# Altium schematic symbol library APSS Connectors.SchLib: 89 symbols
Pins are listed as number, name and electrical type; pins without a type are passive.

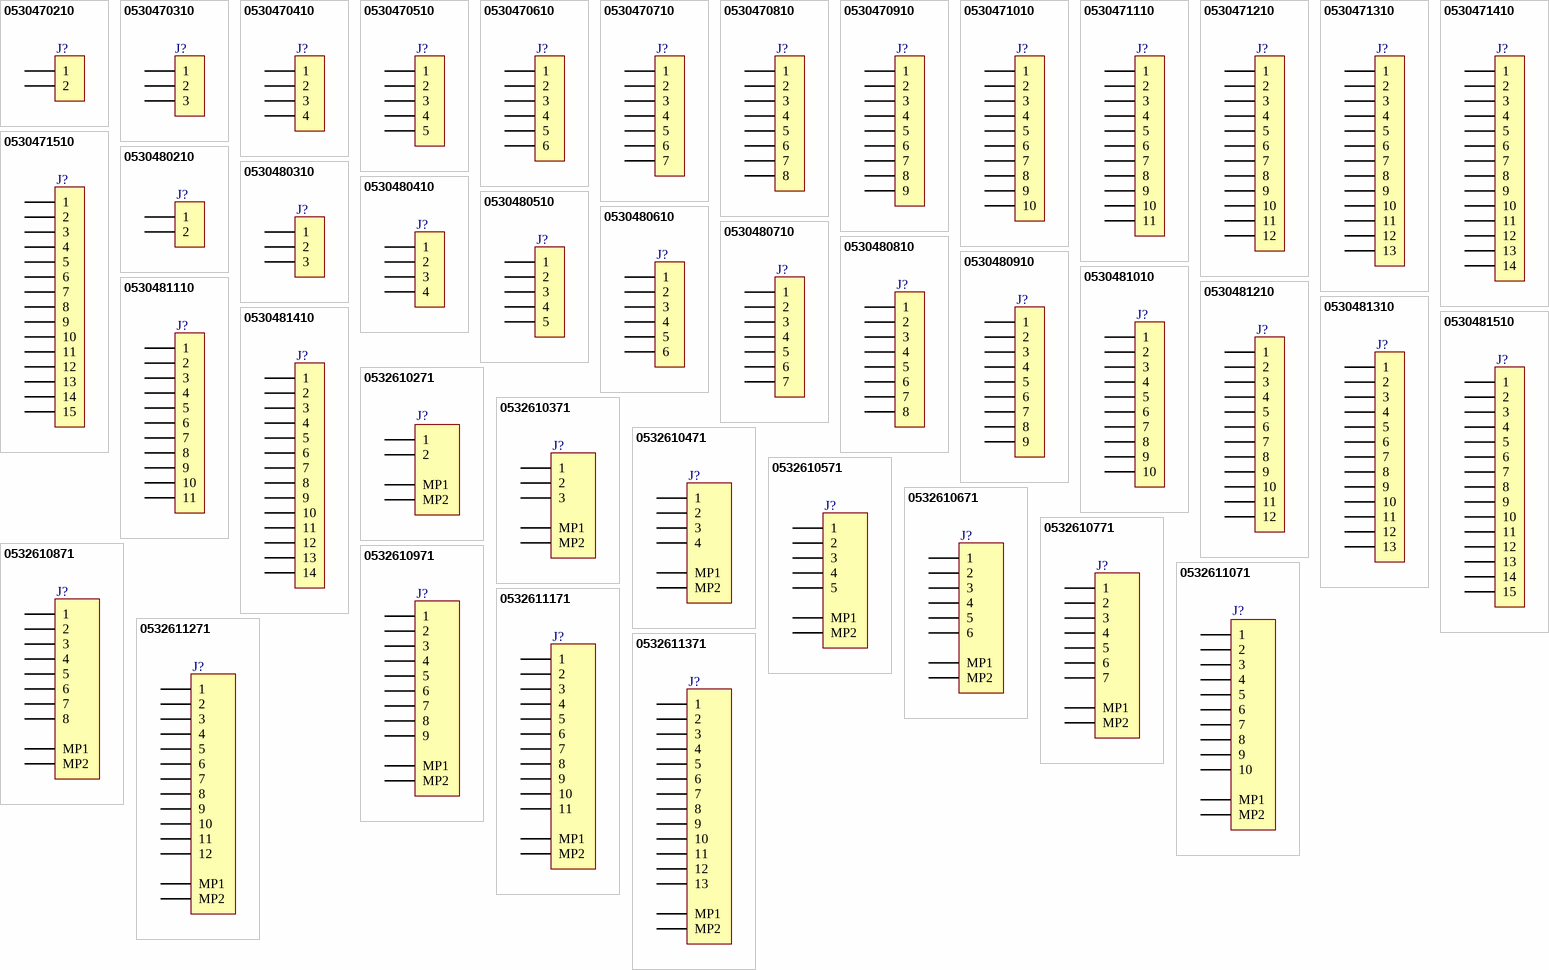
[diagram p0: symbols 0530470210 to 0532611371]

## 0530470210
designator J?  (value not drawn)
Connector - Picoblade 02-pin, TH, STR; APSS Standard Part: APSS Standard; Pitch: 1.25mm; Mounting Type: Through-hole; Orientation: Straight; MF Part No.: 0530470210; Pins: 2; Supplier 1: Digikey; Supplier 1 Part No.: WM1731-ND
footprint MOLEX_0530470210
pins: 1, 2

## 0530470310
designator J?  (value not drawn)
Connector - Picoblade 03-pin, TH, STR; APSS Standard Part: APSS Standard; Pitch: 1.25mm; Mounting Type: Through-hole; Orientation: Straight; MF Part No.: 0530470310; Pins: 3; Supplier 1: Digikey; Supplier 1 Part No.: WM1732-ND
footprint MOLEX_0530470310 (Header - Picoblade 03-pin, TH, STR, 4.2mm height)
pins: 1, 2, 3

## 0530470410
designator J?  (value not drawn)
Connector - Picoblade 04-pin, TH, STR; APSS Standard Part: APSS Standard; Pitch: 1.25mm; Mounting Type: Through-hole; Orientation: Straight; MF Part No.: 0530470410; Pins: 4; Supplier 1: Digikey; Supplier 1 Part No.: WM1733-ND
footprint MOLEX_0530470410
pins: 1, 2, 3, 4

## 0530470510
designator J?  (value not drawn)
Connector - Picoblade 05-pin, TH, STR; APSS Standard Part: APSS Standard; Pitch: 1.25mm; Mounting Type: Through-hole; Orientation: Straight; MF Part No.: 0530470510; Pins: 5; Supplier 1: Digikey; Supplier 1 Part No.: WM1734-ND
footprint MOLEX_0530470510 (Header - Picoblade 05-pin, TH, STR, 4.2mm height)
pins: 1, 2, 3, 4, 5

## 0530470610
designator J?  (value not drawn)
Connector - Picoblade 06-pin, TH, STR; APSS Standard Part: APSS Standard; Pitch: 1.25mm; Mounting Type: Through-hole; Orientation: Straight; MF Part No.: 0530470610; Pins: 6; Supplier 1: Digikey; Supplier 1 Part No.: WM1735-ND
footprint MOLEX_0530470610
pins: 1, 2, 3, 4, 5, 6

## 0530470710
designator J?  (value not drawn)
Connector - Picoblade 07-pin, TH, STR; APSS Standard Part: APSS Standard; Pitch: 1.25mm; Mounting Type: Through-hole; Orientation: Straight; MF Part No.: 0530470710; Pins: 7; Supplier 1: Digikey; Supplier 1 Part No.: WM1736-ND
footprint MOLEX_0530470710 (Header - Picoblade 07-pin, TH, STR, 4.2mm height)
pins: 1, 2, 3, 4, 5, 6, 7

## 0530470810
designator J?  (value not drawn)
Connector - Picoblade 08-pin, TH, STR; APSS Standard Part: APSS Standard; Pitch: 1.25mm; Mounting Type: Through-hole; Orientation: Straight; MF Part No.: 0530470810; Pins: 8; Supplier 1: Digikey; Supplier 1 Part No.: WM1737-ND
footprint MOLEX_0530470810
pins: 1, 2, 3, 4, 5, 6, 7, 8

## 0530470910
designator J?  (value not drawn)
Connector - Picoblade 09-pin, TH, STR; APSS Standard Part: APSS Standard; Pitch: 1.25mm; Mounting Type: Through-hole; Orientation: Straight; MF Part No.: 0530470910; Pins: 9; Supplier 1: Digikey; Supplier 1 Part No.: WM1738-ND
footprint MOLEX_0530470910 (Header - Picoblade 09-pin, TH, STR, 4.2mm height)
pins: 1, 2, 3, 4, 5, 6, 7, 8, 9

## 0530471010
designator J?  (value not drawn)
Connector - Picoblade 10-pin, TH, STR; APSS Standard Part: APSS Standard; Pitch: 1.25mm; Mounting Type: Through-hole; Orientation: Straight; MF Part No.: 0530471010; Pins: 10; Supplier 1: Digikey; Supplier 1 Part No.: WM1739-ND
footprint MOLEX_0530471010
pins: 1, 2, 3, 4, 5, 6, 7, 8, 9, 10

## 0530471110
designator J?  (value not drawn)
Connector - Picoblade 11-pin, TH, STR; APSS Standard Part: APSS Standard; Pitch: 1.25mm; Mounting Type: Through-hole; Orientation: Straight; MF Part No.: 0530471110; Pins: 11; Supplier 1: Digikey; Supplier 1 Part No.: WM1740-ND
footprint MOLEX_0530471110 (Header - Picoblade 11-pin, TH, STR, 4.2mm height)
pins: 1, 2, 3, 4, 5, 6, 7, 8, 9, 10, 11

## 0530471210
designator J?  (value not drawn)
Connector - Picoblade 12-pin, TH, STR; APSS Standard Part: APSS Standard; Pitch: 1.25mm; Mounting Type: Through-hole; Orientation: Straight; MF Part No.: 0530471210; Pins: 12; Supplier 1: Digikey; Supplier 1 Part No.: WM1741-ND
footprint MOLEX_0530471210
pins: 1, 2, 3, 4, 5, 6, 7, 8, 9, 10, 11, 12

## 0530471310
designator J?  (value not drawn)
Connector - Picoblade 13-pin, TH, STR; APSS Standard Part: APSS Standard; Pitch: 1.25mm; Mounting Type: Through-hole; Orientation: Straight; MF Part No.: 0530471310; Pins: 13; Supplier 1: Digikey; Supplier 1 Part No.: 23-0530471310-ND
footprint MOLEX_0530471310 (Header - Picoblade 13-pin, TH, STR, 4.2mm height)
pins: 1, 2, 3, 4, 5, 6, 7, 8, 9, 10, 11, 12, 13

## 0530471410
designator J?  (value not drawn)
Connector - Picoblade 14-pin, TH, STR; APSS Standard Part: APSS Standard; Pitch: 1.25mm; Mounting Type: Through-hole; Orientation: Straight; MF Part No.: 0530471410; Pins: 14; Supplier 1: Digikey; Supplier 1 Part No.: WM17004-ND
footprint MOLEX_0530471410
pins: 1, 2, 3, 4, 5, 6, 7, 8, 9, 10, 11, 12, 13, 14

## 0530471510
designator J?  (value not drawn)
Connector - Picoblade 15-pin, TH, STR; APSS Standard Part: APSS Standard; Pitch: 1.25mm; Mounting Type: Through-hole; Orientation: Straight; Supplier 1: Digikey; Supplier 1 Part No.: WM17005-ND; MF Part No.: 0530471510; Pins: 15
footprint MOLEX_0530471510 (Header - Picoblade 15-pin, TH, STR, 4.2mm height)
pins: 1, 2, 3, 4, 5, 6, 7, 8, 9, 10, 11, 12, 13, 14, 15

## 0530480210
designator J?  (value not drawn)
Connector - Picoblade 02-pin, TH, RA; APSS Standard Part: APSS Standard; Pitch: 1.25mm; Mounting Type: Through-hole; Orientation: Right Angle; MF Part No.: 0530480210; Pins: 2; Supplier 1: Digikey; Supplier 1 Part No.: WM1742-ND
footprint MOLEX_0530480210
pins: 1, 2

## 0530480310
designator J?  (value not drawn)
Connector - Picoblade 03-pin, TH, RA; APSS Standard Part: APSS Standard; Pitch: 1.25mm; Mounting Type: Through-hole; Orientation: Right Angle; MF Part No.: 0530480310; Pins: 3; Supplier 1: Digikey; Supplier 1 Part No.: WM1743-ND
footprint MOLEX_0530480310 (Header - Picoblade 03-pin, TH, RA, 4.2mm height)
pins: 1, 2, 3

## 0530480410
designator J?  (value not drawn)
Connector - Picoblade 04-pin, TH, RA; APSS Standard Part: APSS Standard; Pitch: 1.25mm; Mounting Type: Through-hole; Orientation: Right Angle; MF Part No.: 0530480410; Pins: 4; Supplier 1: Digikey; Supplier 1 Part No.: WM1744-ND
footprint MOLEX_0530480410
pins: 1, 2, 3, 4

## 0530480510
designator J?  (value not drawn)
Connector - Picoblade 05-pin, TH, RA; APSS Standard Part: APSS Standard; Pitch: 1.25mm; Mounting Type: Through-hole; Orientation: Right Angle; MF Part No.: 0530480510; Pins: 5; Supplier 1: Digikey; Supplier 1 Part No.: WM1745-ND
footprint MOLEX_0530480510 (Header - Picoblade 05-pin, TH, RA, 4.2mm height)
pins: 1, 2, 3, 4, 5

## 0530480610
designator J?  (value not drawn)
Connector - Picoblade 06-pin, TH, RA; APSS Standard Part: APSS Standard; Pitch: 1.25mm; Mounting Type: Through-hole; Orientation: Right Angle; MF Part No.: 0530480610; Pins: 6; Supplier 1: Digikey; Supplier 1 Part No.: WM1746-ND
footprint MOLEX_0530480610
pins: 1, 2, 3, 4, 5, 6

## 0530480710
designator J?  (value not drawn)
Connector - Picoblade 07-pin, TH, RA; APSS Standard Part: APSS Standard; Pitch: 1.25mm; Mounting Type: Through-hole; Orientation: Right Angle; MF Part No.: 0530480710; Pins: 7; Supplier 1: Digikey; Supplier 1 Part No.: WM1747-ND
footprint MOLEX_0530480710 (Header - Picoblade 07-pin, TH, RA, 4.2mm height)
pins: 1, 2, 3, 4, 5, 6, 7

## 0530480810
designator J?  (value not drawn)
Connector - Picoblade 08-pin, TH, RA; APSS Standard Part: APSS Standard; Pitch: 1.25mm; Mounting Type: Through-hole; Orientation: Right Angle; MF Part No.: 0530480810; Pins: 8; Supplier 1: Digikey; Supplier 1 Part No.: WM1748-ND
footprint MOLEX_0530480810
pins: 1, 2, 3, 4, 5, 6, 7, 8

## 0530480910
designator J?  (value not drawn)
Connector - Picoblade 09-pin, TH, RA; APSS Standard Part: APSS Standard; Pitch: 1.25mm; Mounting Type: Through-hole; Orientation: Right Angle; MF Part No.: 0530480910; Pins: 9; Supplier 1: Digikey; Supplier 1 Part No.: WM1749-ND
footprint MOLEX_0530480910 (Header - Picoblade 09-pin, TH, RA, 4.2mm height)
pins: 1, 2, 3, 4, 5, 6, 7, 8, 9

## 0530481010
designator J?  (value not drawn)
Connector - Picoblade 10-pin, TH, RA; APSS Standard Part: APSS Standard; Pitch: 1.25mm; Mounting Type: Through-hole; Orientation: Right Angle; MF Part No.: 0530481010; Pins: 10; Supplier 1: Digikey; Supplier 1 Part No.: WM1750-ND
footprint MOLEX_0530481010
pins: 1, 2, 3, 4, 5, 6, 7, 8, 9, 10

## 0530481110
designator J?  (value not drawn)
Connector - Picoblade 11-pin, TH, RA; APSS Standard Part: APSS Standard; Pitch: 1.25mm; Mounting Type: Through-hole; Orientation: Right Angle; MF Part No.: 0530481110; Pins: 11; Supplier 1: Digikey; Supplier 1 Part No.: WM1751-ND
footprint MOLEX_0530481110 (Header - Picoblade 11-pin, TH, RA, 4.2mm height)
pins: 1, 2, 3, 4, 5, 6, 7, 8, 9, 10, 11

## 0530481210
designator J?  (value not drawn)
Connector - Picoblade 12-pin, TH, RA; APSS Standard Part: APSS Standard; Pitch: 1.25mm; Mounting Type: Through-hole; Orientation: Right Angle; MF Part No.: 0530481210; Pins: 12; Supplier 1: Digikey; Supplier 1 Part No.: WM1752-ND
footprint MOLEX_0530481210
pins: 1, 2, 3, 4, 5, 6, 7, 8, 9, 10, 11, 12

## 0530481310
designator J?  (value not drawn)
Connector - Picoblade 13-pin, TH, RA; APSS Standard Part: APSS Standard; Pitch: 1.25mm; Mounting Type: Through-hole; Orientation: Right Angle; MF Part No.: 0530481310; Pins: 13; Supplier 1: Digikey; Supplier 1 Part No.: 23-0530481310-ND
footprint MOLEX_0530481310 (Header - Picoblade 13-pin, TH, RA, 4.2mm height)
pins: 1, 2, 3, 4, 5, 6, 7, 8, 9, 10, 11, 12, 13

## 0530481410
designator J?  (value not drawn)
Connector - Picoblade 14-pin, TH, RA; APSS Standard Part: APSS Standard; Pitch: 1.25mm; Mounting Type: Through-hole; Orientation: Right Angle; MF Part No.: 0530481410; Pins: 14; Supplier 1: Digikey; Supplier 1 Part No.: WM17007-ND
footprint MOLEX_0530481410
pins: 1, 2, 3, 4, 5, 6, 7, 8, 9, 10, 11, 12, 13, 14

## 0530481510
designator J?  (value not drawn)
Connector - Picoblade 15-pin, TH, RA; APSS Standard Part: APSS Standard; Pitch: 1.25mm; Mounting Type: Through-hole; Orientation: Right Angle; MF Part No.: 0530481510; Pins: 15; Supplier 1: Digikey; Supplier 1 Part No.: WM17008-ND
footprint MOLEX_0530481510 (Header - Picoblade 15-pin, TH, RA, 4.2mm height)
pins: 1, 2, 3, 4, 5, 6, 7, 8, 9, 10, 11, 12, 13, 14, 15

## 0532610271
designator J?  (value not drawn)
Connector - Picoblade 02-pin, SMT, RA; APSS Standard Part: APSS Standard; Pitch: 1.25mm; Mounting Type: Surface Mount; Orientation: Right Angle; MF Part No.: 0532610271; Pins: 2; Supplier 1: Digikey; Supplier 1 Part No.: WM7620CT-ND
footprint MOLEX_0532610271 (Header - Picoblade 02-pin, SMT, RA, 3.4mm height)
pins: 1, 2, MP1, MP2

## 0532610371
designator J?  (value not drawn)
Connector - Picoblade 03-pin, SMT, RA; APSS Standard Part: APSS Standard; Pitch: 1.25mm; Mounting Type: Surface Mount; Orientation: Right Angle; MF Part No.: 0532610371; Pins: 3; Supplier 1: Digikey; Supplier 1 Part No.: WM7621CT-ND
footprint MOLEX_0532610371 (Header - Picoblade 03-pin, SMT, RA, 3.4mm height)
pins: 1, 2, 3, MP1, MP2

## 0532610471
designator J?  (value not drawn)
Connector - Picoblade 04-pin, SMT, RA; APSS Standard Part: APSS Standard; Pitch: 1.25mm; Mounting Type: Surface Mount; Orientation: Right Angle; MF Part No.: 0532610471; Pins: 4; Supplier 1: Digikey; Supplier 1 Part No.: WM7622CT-ND
footprint MOLEX_0532610471 (Header - Picoblade 04-pin, SMT, RA, 3.4mm height)
pins: 1, 2, 3, 4, MP1, MP2

## 0532610571
designator J?  (value not drawn)
Connector - Picoblade 05-pin, SMT, RA; APSS Standard Part: APSS Standard; Pitch: 1.25mm; Mounting Type: Surface Mount; Orientation: Right Angle; MF Part No.: 0532610571; Pins: 5; Supplier 1: Digikey; Supplier 1 Part No.: WM7623CT-ND
footprint MOLEX_0532610571 (Header - Picoblade 05-pin, SMT, RA, 3.4mm height)
pins: 1, 2, 3, 4, 5, MP1, MP2

## 0532610671
designator J?  (value not drawn)
Connector - Picoblade 06-pin, SMT, RA; APSS Standard Part: APSS Standard; Pitch: 1.25mm; Mounting Type: Surface Mount; Orientation: Right Angle; MF Part No.: 0532610671; Pins: 6; Supplier 1: Digikey; Supplier 1 Part No.: WM7624CT-ND
footprint MOLEX_0532610671 (Header - Picoblade 06-pin, SMT, RA, 3.4mm height)
pins: 1, 2, 3, 4, 5, 6, MP1, MP2

## 0532610771
designator J?  (value not drawn)
Connector - Picoblade 07-pin, SMT, RA; APSS Standard Part: APSS Standard; Pitch: 1.25mm; Mounting Type: Surface Mount; Orientation: Right Angle; MF Part No.: 0532610771; Pins: 7; Supplier 1: Digikey; Supplier 1 Part No.: WM7625CT-ND
footprint MOLEX_0532610771 (Header - Picoblade 07-pin, SMT, RA, 3.4mm height)
pins: 1, 2, 3, 4, 5, 6, 7, MP1, MP2

## 0532610871
designator J?  (value not drawn)
Connector - Picoblade 08-pin, SMT, RA; APSS Standard Part: APSS Standard; Pitch: 1.25mm; Mounting Type: Surface Mount; Orientation: Right Angle; MF Part No.: 0532610871; Pins: 8; Supplier 1: Digikey; Supplier 1 Part No.: WM7626CT-ND
footprint MOLEX_0532610871 (Header - Picoblade 08-pin, SMT, RA, 3.4mm height)
pins: 1, 2, 3, 4, 5, 6, 7, 8, MP1, MP2

## 0532610971
designator J?  (value not drawn)
Connector - Picoblade 09-pin, SMT, RA; APSS Standard Part: APSS Standard; Pitch: 1.25mm; Mounting Type: Surface Mount; Orientation: Right Angle; MF Part No.: 0532610971; Pins: 9; Supplier 1: Digikey; Supplier 1 Part No.: WM7627CT-ND
footprint MOLEX_0532610971 (Header - Picoblade 09-pin, SMT, RA, 3.4mm height)
pins: 1, 2, 3, 4, 5, 6, 7, 8, 9, MP1, MP2

## 0532611071
designator J?  (value not drawn)
Connector - Picoblade 10-pin, SMT, RA; APSS Standard Part: APSS Standard; Pitch: 1.25mm; Mounting Type: Surface Mount; Orientation: Right Angle; MF Part No.: 0532611071; Pins: 10; Supplier 1: Digikey; Supplier 1 Part No.: WM7628CT-ND
footprint MOLEX_0532611071 (Header - Picoblade 10-pin, SMT, RA, 3.4mm height)
pins: 1, 2, 3, 4, 5, 6, 7, 8, 9, 10, MP1, MP2

## 0532611171
designator J?  (value not drawn)
Connector - Picoblade 11-pin, SMT, RA; APSS Standard Part: APSS Standard; Pitch: 1.25mm; Mounting Type: Surface Mount; Orientation: Right Angle; MF Part No.: 0532611171; Pins: 11; Supplier 1: Digikey; Supplier 1 Part No.: WM7629CT-ND
footprint MOLEX_0532611171 (Header - Picoblade 11-pin, SMT, RA, 3.4mm height)
pins: 1, 2, 3, 4, 5, 6, 7, 8, 9, 10, 11, MP1, MP2

## 0532611271
designator J?  (value not drawn)
Connector - Picoblade 12-pin, SMT, RA; APSS Standard Part: APSS Standard; Pitch: 1.25mm; Mounting Type: Surface Mount; Orientation: Right Angle; MF Part No.: 0532611271; Pins: 12; Supplier 1: Digikey; Supplier 1 Part No.: WM7630CT-ND
footprint MOLEX_0532611271 (Header - Picoblade 12-pin, SMT, RA, 3.4mm height)
pins: 1, 2, 3, 4, 5, 6, 7, 8, 9, 10, 11, 12, MP1, MP2

## 0532611371
designator J?  (value not drawn)
Connector - Picoblade 13-pin, SMT, RA; APSS Standard Part: APSS Standard; Pitch: 1.25mm; Mounting Type: Surface Mount; Orientation: Right Angle; MF Part No.: 0532611371; Pins: 13; Supplier 1: Digikey; Supplier 1 Part No.: WM14352CT-ND
footprint MOLEX_0532611371 (Header - Picoblade 13-pin, SMT, RA, 3.4mm height)
pins: 1, 2, 3, 4, 5, 6, 7, 8, 9, 10, 11, 12, 13, MP1, MP2

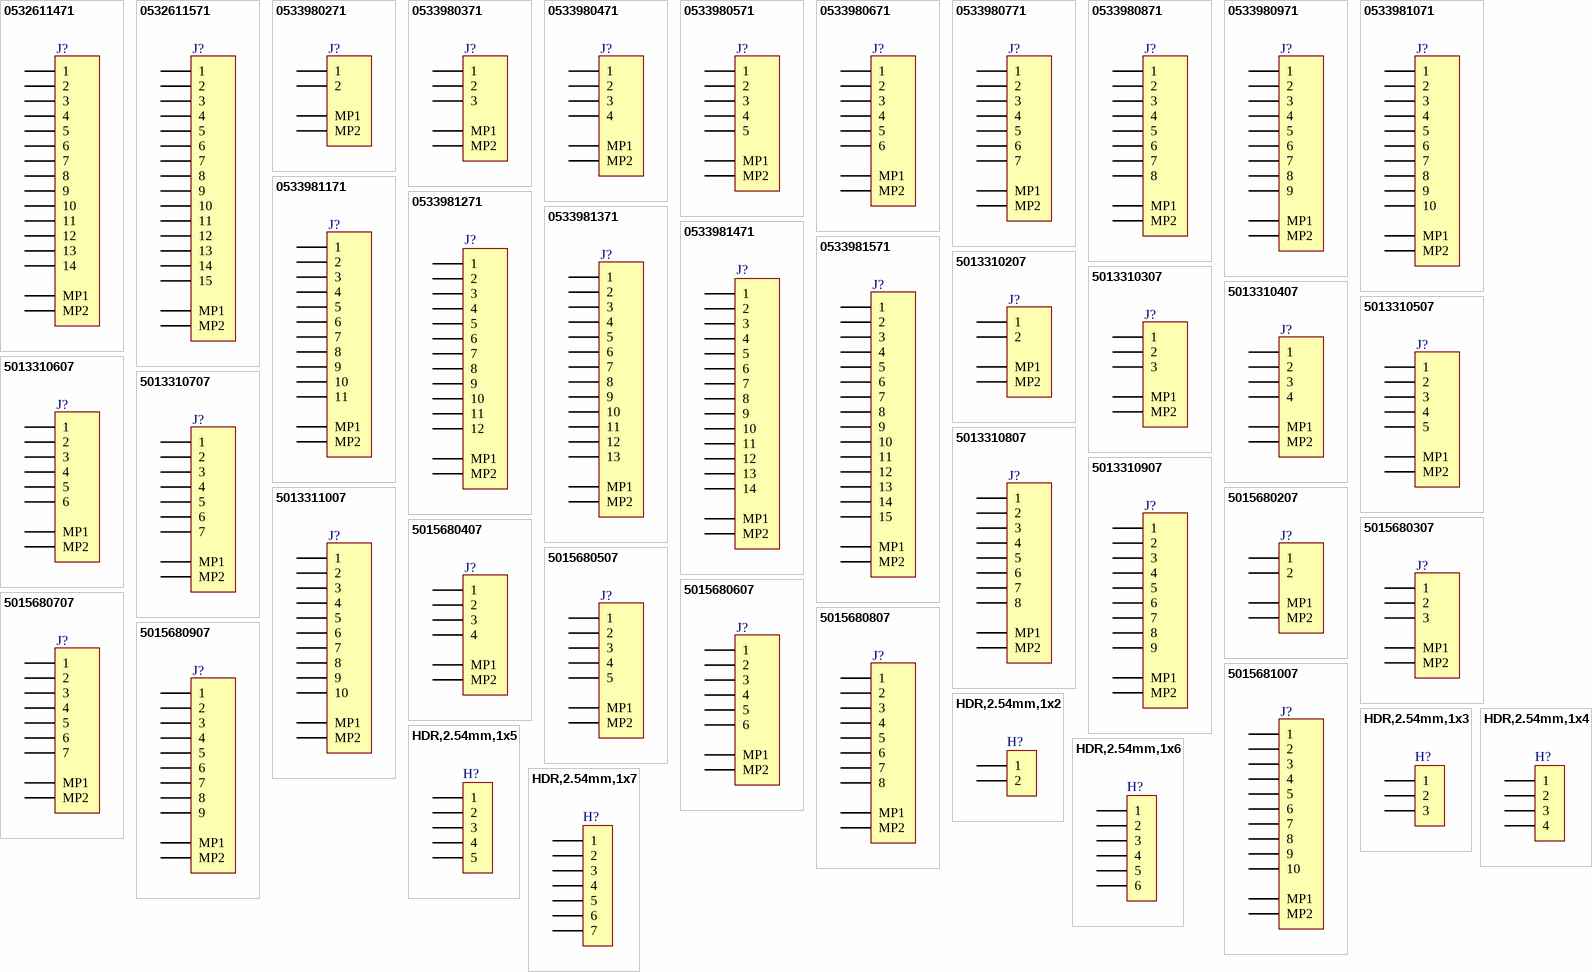
[diagram p1: symbols 0532611471 to HDR,2.54mm,1x7]

## 0532611471
designator J?  (value not drawn)
Connector - Picoblade 14-pin, SMT, RA; APSS Standard Part: APSS Standard; Pitch: 1.25mm; Mounting Type: Surface Mount; Orientation: Right Angle; MF Part No.: 0532611471; Pins: 14; Supplier 1: Digikey; Supplier 1 Part No.: WM7631CT-ND
footprint MOLEX_0532611471 (Header - Picoblade 14-pin, SMT, RA, 3.4mm height)
pins: 1, 2, 3, 4, 5, 6, 7, 8, 9, 10, 11, 12, 13, 14, MP1, MP2

## 0532611571
designator J?  (value not drawn)
Connector - Picoblade 15-pin, SMT, RA; APSS Standard Part: APSS Standard; Pitch: 1.25mm; Mounting Type: Surface Mount; Orientation: Right Angle; MF Part No.: 0532611571; Pins: 15; Supplier 1: Digikey; Supplier 1 Part No.: WM7632CT-ND
footprint MOLEX_0532611571 (Header - Picoblade 15-pin, SMT, RA, 3.4mm height)
pins: 1, 2, 3, 4, 5, 6, 7, 8, 9, 10, 11, 12, 13, 14, 15, MP1, MP2

## 0533980271
designator J?  (value not drawn)
Connector - Picoblade 02-pin, SMT, STR; APSS Standard Part: APSS Standard; Pitch: 1.25mm; Mounting Type: Surface Mount; Orientation: Straight; MF Part No.: 0533980271; Pins: 2; Supplier 1: Digikey; Supplier 1 Part No.: WM7606CT-ND
footprint MOLEX_0533980271 (Header - Picoblade 02-pin, SMT, STR, 4.7mm height)
pins: 1, 2, MP1, MP2

## 0533980371
designator J?  (value not drawn)
Connector - Picoblade 03-pin, SMT, STR; APSS Standard Part: APSS Standard; Pitch: 1.25mm; Mounting Type: Surface Mount; Orientation: Straight; MF Part No.: 0533980371; Pins: 3; Supplier 1: Digikey; Supplier 1 Part No.: WM7607CT-ND
footprint MOLEX_0533980371 (Header - Picoblade 03-pin, SMT, STR, 4.7mm height)
pins: 1, 2, 3, MP1, MP2

## 0533980471
designator J?  (value not drawn)
Connector - Picoblade 04-pin, SMT, STR; APSS Standard Part: APSS Standard; Pitch: 1.25mm; Mounting Type: Surface Mount; Orientation: Straight; MF Part No.: 0533980471; Pins: 4; Supplier 1: Digikey; Supplier 1 Part No.: WM7608CT-ND
footprint MOLEX_0533980471 (Header - Picoblade 04-pin, SMT, STR, 4.7mm height)
pins: 1, 2, 3, 4, MP1, MP2

## 0533980571
designator J?  (value not drawn)
Connector - Picoblade 05-pin, SMT, STR; APSS Standard Part: APSS Standard; Pitch: 1.25mm; Mounting Type: Surface Mount; Orientation: Straight; MF Part No.: 0533980571; Pins: 5; Supplier 1: Digikey; Supplier 1 Part No.: WM7609CT-ND
footprint MOLEX_0533980571 (Header - Picoblade 05-pin, SMT, STR, 4.7mm height)
pins: 1, 2, 3, 4, 5, MP1, MP2

## 0533980671
designator J?  (value not drawn)
Connector - Picoblade 06-pin, SMT, STR; APSS Standard Part: APSS Standard; Pitch: 1.25mm; Mounting Type: Surface Mount; Orientation: Straight; MF Part No.: 0533980671; Pins: 6; Supplier 1: Digikey; Supplier 1 Part No.: WM7610CT-ND
footprint MOLEX_0533980671 (Header - Picoblade 06-pin, SMT, STR, 4.7mm height)
pins: 1, 2, 3, 4, 5, 6, MP1, MP2

## 0533980771
designator J?  (value not drawn)
Connector - Picoblade 07-pin, SMT, STR; APSS Standard Part: APSS Standard; Pitch: 1.25mm; Mounting Type: Surface Mount; Orientation: Straight; MF Part No.: 0533980771; Pins: 7; Supplier 1: Digikey; Supplier 1 Part No.: WM7611CT-ND
footprint MOLEX_0533980771 (Header - Picoblade 07-pin, SMT, STR, 4.7mm height)
pins: 1, 2, 3, 4, 5, 6, 7, MP1, MP2

## 0533980871
designator J?  (value not drawn)
Connector - Picoblade 08-pin, SMT, STR; APSS Standard Part: APSS Standard; Pitch: 1.25mm; Mounting Type: Surface Mount; Orientation: Straight; MF Part No.: 0533980871; Pins: 8; Supplier 1: Digikey; Supplier 1 Part No.: WM7612CT-ND
footprint MOLEX_0533980871 (Header - Picoblade 08-pin, SMT, STR, 4.7mm height)
pins: 1, 2, 3, 4, 5, 6, 7, 8, MP1, MP2

## 0533980971
designator J?  (value not drawn)
Connector - Picoblade 09-pin, SMT, STR; APSS Standard Part: APSS Standard; Pitch: 1.25mm; Mounting Type: Surface Mount; Orientation: Straight; MF Part No.: 0533980971; Pins: 9; Supplier 1: Digikey; Supplier 1 Part No.: WM7613CT-ND
footprint MOLEX_0533980971 (Header - Picoblade 09-pin, SMT, STR, 4.7mm height)
pins: 1, 2, 3, 4, 5, 6, 7, 8, 9, MP1, MP2

## 0533981071
designator J?  (value not drawn)
Connector - Picoblade 10-pin, SMT, STR; APSS Standard Part: APSS Standard; Pitch: 1.25mm; Mounting Type: Surface Mount; Orientation: Straight; MF Part No.: 0533981071; Pins: 10; Supplier 1: Digikey; Supplier 1 Part No.: WM7614CT-ND
footprint MOLEX_0533981071 (Header - Picoblade 10-pin, SMT, STR, 4.7mm height)
pins: 1, 2, 3, 4, 5, 6, 7, 8, 9, 10, MP1, MP2

## 0533981171
designator J?  (value not drawn)
Connector - Picoblade 11-pin, SMT, STR; APSS Standard Part: APSS Standard; Pitch: 1.25mm; Mounting Type: Surface Mount; Orientation: Straight; MF Part No.: 0533981171; Pins: 11; Supplier 1: Digikey; Supplier 1 Part No.: WM7615CT-ND
footprint MOLEX_0533981171 (Header - Picoblade 11-pin, SMT, STR, 4.7mm height)
pins: 1, 2, 3, 4, 5, 6, 7, 8, 9, 10, 11, MP1, MP2

## 0533981271
designator J?  (value not drawn)
Connector - Picoblade 12-pin, SMT, STR; APSS Standard Part: APSS Standard; Pitch: 1.25mm; Mounting Type: Surface Mount; Orientation: Straight; MF Part No.: 0533981271; Pins: 12; Supplier 1: Digikey; Supplier 1 Part No.: WM7616CT-ND
footprint MOLEX_0533981271 (Header - Picoblade 12-pin, SMT, STR, 4.7mm height)
pins: 1, 2, 3, 4, 5, 6, 7, 8, 9, 10, 11, 12, MP1, MP2

## 0533981371
designator J?  (value not drawn)
Connector - Picoblade 13-pin, SMT, STR; APSS Standard Part: APSS Standard; Pitch: 1.25mm; Mounting Type: Surface Mount; Orientation: Straight; MF Part No.: 0533981371; Pins: 13; Supplier 1: Digikey; Supplier 1 Part No.: WM7617CT-ND
footprint MOLEX_0533981371 (Header - Picoblade 13-pin, SMT, STR, 4.7mm height)
pins: 1, 2, 3, 4, 5, 6, 7, 8, 9, 10, 11, 12, 13, MP1, MP2

## 0533981471
designator J?  (value not drawn)
Connector - Picoblade 14-pin, SMT, STR; APSS Standard Part: APSS Standard; Pitch: 1.25mm; Mounting Type: Surface Mount; Orientation: Straight; MF Part No.: 0533981471; Pins: 14; Supplier 1: Digikey; Supplier 1 Part No.: WM7618CT-ND
footprint MOLEX_0533981471 (Header - Picoblade 14-pin, SMT, STR, 4.7mm height)
pins: 1, 2, 3, 4, 5, 6, 7, 8, 9, 10, 11, 12, 13, 14, MP1, MP2

## 0533981571
designator J?  (value not drawn)
Connector - Picoblade 15-pin, SMT, STR; APSS Standard Part: APSS Standard; Pitch: 1.25mm; Mounting Type: Surface Mount; Orientation: Straight; MF Part No.: 0533981571; Pins: 15; Supplier 1: Digikey; Supplier 1 Part No.: WM7619CT-ND
footprint MOLEX_0533981571 (Header - Picoblade 15-pin, SMT, STR, 4.7mm height)
pins: 1, 2, 3, 4, 5, 6, 7, 8, 9, 10, 11, 12, 13, 14, 15, MP1, MP2

## 5013310207
designator J?  (value not drawn)
Connector - Picoclasp  02-pin, SMT, STR; APSS Standard Part: APSS Standard; Pitch: 1mm; Mounting Type: Surface Mount; Orientation: Straight; MF Part No.: 5013310207; Pins: 2; Supplier 1: Digikey; Supplier 1 Part No.: WM7879CT-ND
footprint MOLEX_5013310207
pins: 1, 2, MP1, MP2

## 5013310307
designator J?  (value not drawn)
Connector - Picoclasp  03-pin, SMT, STR; APSS Standard Part: APSS Standard; Pitch: 1mm; Mounting Type: Surface Mount; Orientation: Straight; MF Part No.: 5013310307; Pins: 3; Supplier 1: Digikey; Supplier 1 Part No.: 23-5013310307CT-ND
footprint MOLEX_5013310307
pins: 1, 2, 3, MP1, MP2

## 5013310407
designator J?  (value not drawn)
Connector - Picoclasp  04-pin, SMT, STR; APSS Standard Part: APSS Standard; Pitch: 1mm; Mounting Type: Surface Mount; Orientation: Straight; MF Part No.: 5013310407; Pins: 4; Supplier 1: Digikey; Supplier 1 Part No.: WM7881CT-ND
footprint MOLEX_5013310407
pins: 1, 2, 3, 4, MP1, MP2

## 5013310507
designator J?  (value not drawn)
Connector - Picoclasp  05-pin, SMT, STR; APSS Standard Part: APSS Standard; Pitch: 1mm; Mounting Type: Surface Mount; Orientation: Straight; MF Part No.: 5013310507; Pins: 5; Supplier 1: Digikey; Supplier 1 Part No.: WM7882CT-ND
footprint MOLEX_5013310507
pins: 1, 2, 3, 4, 5, MP1, MP2

## 5013310607
designator J?  (value not drawn)
Connector - Picoclasp  06-pin, SMT, STR; APSS Standard Part: APSS Standard; Pitch: 1mm; Mounting Type: Surface Mount; Orientation: Straight; MF Part No.: 5013310607; Pins: 6; Supplier 1: Digikey; Supplier 1 Part No.: WM7883CT-ND
footprint MOLEX_5013310607
pins: 1, 2, 3, 4, 5, 6, MP1, MP2

## 5013310707
designator J?  (value not drawn)
Connector - Picoclasp  07-pin, SMT, STR; APSS Standard Part: APSS Standard; Pitch: 1mm; Mounting Type: Surface Mount; Orientation: Straight; MF Part No.: 5013310707; Pins: 7; Supplier 1: Digikey; Supplier 1 Part No.: 900-5013310707CT-ND
footprint MOLEX_5013310707
pins: 1, 2, 3, 4, 5, 6, 7, MP1, MP2

## 5013310807
designator J?  (value not drawn)
Connector - Picoclasp  08-pin, SMT, STR; APSS Standard Part: APSS Standard; Pitch: 1mm; Mounting Type: Surface Mount; Orientation: Straight; MF Part No.: 5013310807; Pins: 8; Supplier 1: Digikey; Supplier 1 Part No.: 900-5013310807CT-ND
footprint MOLEX_5013310807
pins: 1, 2, 3, 4, 5, 6, 7, 8, MP1, MP2

## 5013310907
designator J?  (value not drawn)
Connector - Picoclasp  09-pin, SMT, STR; APSS Standard Part: APSS Standard; Pitch: 1mm; Mounting Type: Surface Mount; Orientation: Straight; MF Part No.: 5013310907; Pins: 9; Supplier 1: Digikey; Supplier 1 Part No.: 23-5013310907CT-ND
footprint MOLEX_5013310907
pins: 1, 2, 3, 4, 5, 6, 7, 8, 9, MP1, MP2

## 5013311007
designator J?  (value not drawn)
Connector - Picoclasp  10-pin, SMT, STR; APSS Standard Part: APSS Standard; Pitch: 1mm; Mounting Type: Surface Mount; Orientation: Straight; MF Part No.: 5013311007; Pins: 10; Supplier 1: Digikey; Supplier 1 Part No.: WM7887CT-ND
footprint MOLEX_5013311007
pins: 1, 2, 3, 4, 5, 6, 7, 8, 9, 10, MP1, MP2

## 5015680207
designator J?  (value not drawn)
Connector - Picoclasp  02-pin, SMT, RA; APSS Standard Part: APSS Standard; Pitch: 1mm; Mounting Type: Surface Mount; Orientation: Straight; MF Part No.: 5015680207; Pins: 2; Supplier 1: Digikey; Supplier 1 Part No.: WM7893CT-ND
footprint MOLEX_5015680207
pins: 1, 2, MP1, MP2

## 5015680307
designator J?  (value not drawn)
Connector - Picoclasp  03-pin, SMT, RA; APSS Standard Part: APSS Standard; Pitch: 1mm; Mounting Type: Surface Mount; Orientation: Straight; MF Part No.: 5015680307; Pins: 3; Supplier 1: Digikey; Supplier 1 Part No.: WM7894CT-ND
footprint MOLEX_5015680307
pins: 1, 2, 3, MP1, MP2

## 5015680407
designator J?  (value not drawn)
Connector - Picoclasp  04-pin, SMT, RA; APSS Standard Part: APSS Standard; Pitch: 1mm; Mounting Type: Surface Mount; Orientation: Straight; MF Part No.: 5015680407; Pins: 4; Supplier 1: Digikey; Supplier 1 Part No.: WM7895CT-ND
footprint MOLEX_5015680407
pins: 1, 2, 3, 4, MP1, MP2

## 5015680507
designator J?  (value not drawn)
Connector - Picoclasp  05-pin, SMT, RA; APSS Standard Part: APSS Standard; Pitch: 1mm; Mounting Type: Surface Mount; Orientation: Straight; MF Part No.: 5015680507; Pins: 5; Supplier 1: Digikey; Supplier 1 Part No.: WM7896CT-ND
footprint MOLEX_5015680507
pins: 1, 2, 3, 4, 5, MP1, MP2

## 5015680607
designator J?  (value not drawn)
Connector - Picoclasp  06-pin, SMT, RA; APSS Standard Part: APSS Standard; Pitch: 1mm; Mounting Type: Surface Mount; Orientation: Straight; MF Part No.: 5015680607; Pins: 6; Supplier 1: Digikey; Supplier 1 Part No.: WM7897CT-ND
footprint MOLEX_5015680607
pins: 1, 2, 3, 4, 5, 6, MP1, MP2

## 5015680707
designator J?  (value not drawn)
Connector - Picoclasp  07-pin, SMT, RA; APSS Standard Part: APSS Standard; Pitch: 1mm; Mounting Type: Surface Mount; Orientation: Straight; MF Part No.: 5015680707; Pins: 7; Supplier 1: Digikey; Supplier 1 Part No.: 23-5015680707CT-ND
footprint MOLEX_5015680707
pins: 1, 2, 3, 4, 5, 6, 7, MP1, MP2

## 5015680807
designator J?  (value not drawn)
Connector - Picoclasp  08-pin, SMT, RA; APSS Standard Part: APSS Standard; Pitch: 1mm; Mounting Type: Surface Mount; Orientation: Straight; MF Part No.: 5015680807; Pins: 8; Supplier 1: Digikey
footprint MOLEX_5015680807
pins: 1, 2, 3, 4, 5, 6, 7, 8, MP1, MP2

## 5015680907
designator J?  (value not drawn)
Connector - Picoclasp  09-pin, SMT, RA; APSS Standard Part: APSS Standard; Pitch: 1mm; Mounting Type: Surface Mount; Orientation: Straight; MF Part No.: 5015680907; Pins: 9; Supplier 1: Digikey; Supplier 1 Part No.: 23-5015680907CT-ND
footprint MOLEX_5015680907
pins: 1, 2, 3, 4, 5, 6, 7, 8, 9, MP1, MP2

## 5015681007
designator J?  (value not drawn)
Connector - Picoclasp  10-pin, SMT, RA; APSS Standard Part: APSS Standard; Pitch: 1mm; Mounting Type: Surface Mount; Orientation: Straight; MF Part No.: 5015681007; Pins: 10; Supplier 1: Digikey; Supplier 1 Part No.: WM7901CT-ND
footprint MOLEX_5015681007
pins: 1, 2, 3, 4, 5, 6, 7, 8, 9, 10, MP1, MP2

## HDR,2.54mm,1x2
designator H?  (value not drawn)  (no BOM)
Connector - 2.54mm, 1x2-pin
footprint HEADER_2.54MM_1x2PIN
pins: 1, 2

## HDR,2.54mm,1x3
designator H?  (value not drawn)  (no BOM)
Connector - 2.54mm, 1x3-pin
footprint HEADER_2.54MM_1x3PIN
pins: 1, 2, 3

## HDR,2.54mm,1x4
designator H?  (value not drawn)  (no BOM)
Connector - 2.54mm, 1x4-pin
footprint HEADER_2.54MM_1x4PIN
pins: 1, 2, 3, 4

## HDR,2.54mm,1x5
designator H?  (value not drawn)  (no BOM)
Connector - 2.54mm, 1x5-pin
footprint HEADER_2.54MM_1x5PIN
pins: 1, 2, 3, 4, 5

## HDR,2.54mm,1x6
designator H?  (value not drawn)  (no BOM)
Connector - 2.54mm, 1x6-pin
footprint HEADER_2.54MM_1x6PIN
pins: 1, 2, 3, 4, 5, 6

## HDR,2.54mm,1x7
designator H?  (value not drawn)  (no BOM)
Connector - 2.54mm, 1x7-pin
footprint HEADER_2.54MM_1x7PIN
pins: 1, 2, 3, 4, 5, 6, 7

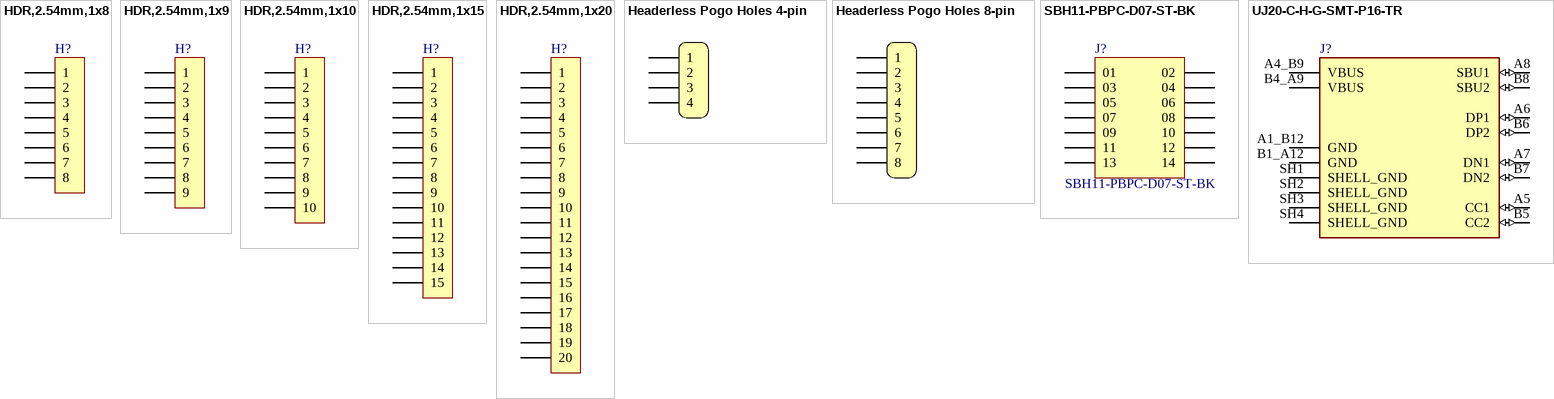
[diagram p2: symbols HDR,2.54mm,1x8 to UJ20-C-H-G-SMT-P16-TR]

## HDR,2.54mm,1x8
designator H?  (value not drawn)  (no BOM)
Connector - 2.54mm, 1x8-pin
footprint HEADER_2.54MM_1x8PIN
pins: 1, 2, 3, 4, 5, 6, 7, 8

## HDR,2.54mm,1x9
designator H?  (value not drawn)  (no BOM)
Connector - 2.54mm, 1x9-pin
footprint HEADER_2.54MM_1x9PIN
pins: 1, 2, 3, 4, 5, 6, 7, 8, 9

## HDR,2.54mm,1x10
designator H?  (value not drawn)  (no BOM)
Connector - 2.54mm, 1x10-pin
footprint HEADER_2.54MM_1x10PIN
pins: 1, 2, 3, 4, 5, 6, 7, 8, 9, 10

## HDR,2.54mm,1x15
designator H?  (value not drawn)  (no BOM)
Connector - 2.54mm, 1x15-pin
footprint HEADER_2.54MM_1x15PIN
pins: 1, 2, 3, 4, 5, 6, 7, 8, 9, 10, 11, 12, 13, 14, 15

## HDR,2.54mm,1x20
designator H?  (value not drawn)  (no BOM)
Connector - 2.54mm, 1x20-pin
footprint HEADER_2.54MM_1x20PIN
pins: 1, 2, 3, 4, 5, 6, 7, 8, 9, 10, 11, 12, 13, 14, 15, 16, 17, 18, 19, 20

## Headerless Pogo Holes 4-pin
designator H*  (value not drawn)  (no BOM)
Connector - Pogo pin pads, 4-pin
footprint POGO_4_PIN_HEADER (4-pin header for pogo pins)
footprint POGO_4_PIN_HEADER_PADS (4-pin header for pogo pins. Two locating vias, the rest are pads)
pins: 1, 2, 3, 4

## Headerless Pogo Holes 8-pin
designator H*  (value not drawn)  (no BOM)
Connector - Pogo pin pads, 8-pin
footprint POGO_8_PIN_HEADER (8-pin header for pogo pins)
footprint POGO_8_PIN_HEADER_PADS (8-pin header for pogo pins. Two locating vias, the rest are pads)
pins: 1, 2, 3, 4, 5, 6, 7, 8

## SBH11-PBPC-D07-ST-BK
designator J?
Connector - 14-pin JTAG Male Header; APSS Standard Part: APSS Standard
footprint SBH11-PBPC-D07-ST-BK (Footprint not found)
pins: 01, 02, 03, 04, 05, 06, 07, 08, 09, 10, 11, 12, 13, 14

## UJ20-C-H-G-SMT-P16-TR
designator J?  (value not drawn)
Connector - USB-C 2.0 Surface Mount, Receptacle Connector 24 Position (16+8 Dummy), Right Angle, Long mounting legs; APSS Standard Part: APSS Standard; MF Part No.: USB4105-GF-A; Rated Voltage: 48VDC; Temp Range: -40°C ~ 85°C; Supplier 1: Digikey; Supplier 1 Part No.: 2073-USB4105-GF-ACT-ND
footprint SAMESKY_UJ20-C-H-G-SMT-P16-TR
pins: A1_B12 GND (power), A4_B9 VBUS (power), A5 CC1 (io), A6 DP1 (io), A7 DN1 (io), A8 SBU1 (io), B1_A12 GND (power), B4_A9 VBUS (power), B5 CC2 (io), B6 DP2 (io), B7 DN2 (io), B8 SBU2 (io), SH1 SHELL_GND (power), SH2 SHELL_GND (power), SH3 SHELL_GND (power), SH4 SHELL_GND (power)